# Altium footprint library PONT_H.PcbLib: 2 footprints
Each footprint in its own frame and in the unit in brackets; x right, y up, seen from the top. Pads: shape width x height; smd on the part's side, far side on the other; paste and mask are expansions set on the pad; w line width, h text height; cw(c..) or ccw(c..) is an arc to the next point about the centre after c.
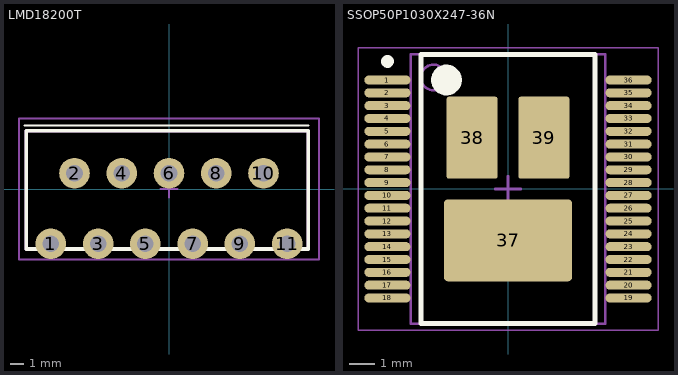
[diagram p0: the footprints below, top view; thin cyan lines are the x and y axes]

## LMD18200T [mm]
pads (11):
  round 2.2 hole 1.2: 1(-8.5,-3.937) 2(-6.8,1.143) 3(-5.1,-3.937) 4(-3.4,1.143) 5(-1.7,-3.937) 6(0,1.143) 7(1.7,-3.937) 8(3.4,1.143) 9(5.1,-3.937) 10(6.8,1.143) 11(8.5,-3.937)
Top Overlay:
  lines w0.127: -10.414,4.572 10.033,4.572
  lines w0.254: -10.287,-4.318 -10.287,4.191 10.033,4.191 10.033,-4.318 -10.287,-4.318
Mechanical 13:
  lines w0.254: -10.287,-4.318 10.033,-4.318 10.033,4.191 -10.287,4.191 -10.287,-4.318
Mechanical 15:
  lines w0.127: -0.635,0 0.635,0 ; 0,-0.635 0,0.635 ; -10.795,-5.08 10.795,-5.08 10.795,5.08 -10.795,5.08 -10.795,-5.08
Mechanical 17:
  text ".Designator" at -5.08,-1.905 h2
3D body "SW3dPS-LMD18200T H Bridge.STEP": height 16.79, standoff -5.05, extent -10.325,-4.302 10.071,4.191

## SSOP50P1030X247-36N [mm] "SSOP, 36-Leads, Body 10,30x7,50mm, Pitch 0,50mm, IPC Medium Density"
height 2.47
pads (39):
  oval 1.8x0.35 smd: 1(-4.7,4.25) 2(-4.7,3.75) 3(-4.7,3.25) 4(-4.7,2.75) 5(-4.7,2.25) 6(-4.7,1.75) 7(-4.7,1.25) 8(-4.7,0.75) 9(-4.7,0.25) 10(-4.7,-0.25) 11(-4.7,-0.75) 12(-4.7,-1.25) 13(-4.7,-1.75) 14(-4.7,-2.25) 15(-4.7,-2.75) 16(-4.7,-3.25) 17(-4.7,-3.75) 18(-4.7,-4.25) 19(4.7,-4.25) 20(4.7,-3.75) 21(4.7,-3.25) 22(4.7,-2.75) 23(4.7,-2.25) 24(4.7,-1.75) 25(4.7,-1.25) 26(4.7,-0.75) 27(4.7,-0.25) 28(4.7,0.25) 29(4.7,0.75) 30(4.7,1.25) 31(4.7,1.75) 32(4.7,2.25) 33(4.7,2.75) 34(4.7,3.25) 35(4.7,3.75) 36(4.7,4.25)
  rrect10% 5x3.2 smd: 37(0,-2)
  rrect10% 2x3.2 smd: 38(-1.4,2) 39(1.4,2)
Top Overlay:
  circle w0.6: c-2.4,4.25 r0.3
  circle w0.25: c-4.7,4.975 r0.125
  lines w0.2: -3.4,-5.25 3.4,-5.25 3.4,5.25 -3.4,5.25 -3.4,-5.25
Mechanical 13:
  circle w0.1: c-2.9,4.35 r0.5
  lines w0.1: -3.8,-5.25 3.8,-5.25 3.8,5.25 -3.8,5.25 -3.8,-5.25
Mechanical 15:
  lines w0.05: -5.85,-5.5 5.85,-5.5 5.85,5.5 -5.85,5.5 -5.85,-5.5
  lines w0.1: -0.5,0 0.5,0 ; 0,-0.5 0,0.5
3D body: height 2.47, standoff 0.1, extent -3.8,-5.25 3.8,5.25